# Altium integrated library Driver_LED.IntLib: 1 symbol
Pins are listed as number, name and electrical type; pins without a type are passive.

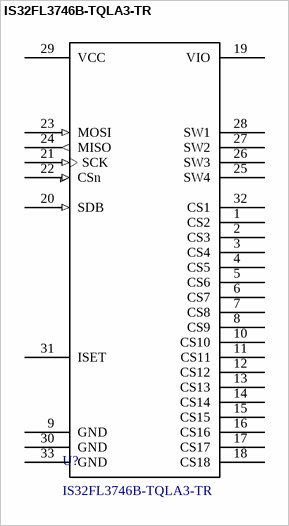
[diagram p0: symbol IS32FL3746B-TQLA3-TR]

## IS32FL3746B-TQLA3-TR
designator U?
LED Driver IC 18 Output Linear Constant Current PWM Dimming 34.5mA 32-eTQFP (7x7); Manufacturer 1: Lumissil Microsystems; Supplier 1: Digi-Key; Supplier Part Number 1: 2521-IS32FL3746B-TQLA3-TRCT-ND; Manufacturer Part Number 1: IS32FL3746B-TQLA3-TR
footprint TQFP80P900X900X120_HS-33N (TQFP, 32-Leads, Body 7.00x7.00mm, Pitch 0.80mm, Thermal Pad 3.90x3.90mm, IPC Medium Density)
pins: 1 CS2, 2 CS3, 3 CS4, 4 CS5, 5 CS6, 6 CS7, 7 CS8, 8 CS9, 9 GND, 10 CS10, 11 CS11, 12 CS12, 13 CS13, 14 CS14, 15 CS15, 16 CS16, 17 CS17, 18 CS18, 19 VIO, 20 SDB (in), 21 SCK (in), 22 CSn (in), 23 MOSI (in), 24 MISO (out), 25 SW4, 26 SW3, 27 SW2, 28 SW1, 29 VCC, 30 GND, 31 ISET, 32 CS1, 33 GND